# EAGLE library part TC-2050 (library mbed-HDK-Connector)
2.54mm pitch TC2050
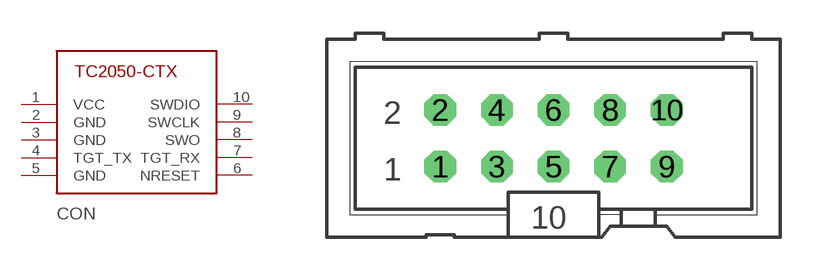
[diagram p12: symbol with the pads of 2X5_0.1"; footprint 2X5_0.1"]

Designator prefix CON

## TC-2050  [2X5_0.1"]
1  VCC
2  GND
3  GND
4  TGT_TX
5  GND
6  NRESET
7  TGT_RX
8  SWO
9  SWCLK
10  SWDIO

## Footprint 2X5_0.1" (pad centres in mm)
HARTING
drill 0.914 octagon: 1 -5.08,-1.27; 2 -5.08,1.27; 3 -2.54,-1.27; 4 -2.54,1.27; 5 0,-1.27; 6 0,1.27; 7 2.54,-1.27; 8 2.54,1.27; 9 5.08,-1.27; 10 5.08,1.27